# Altium footprint library Fuses.PcbLib: 1 footprints
Each footprint in its own frame and in the unit in brackets; x right, y up, seen from the top. Pads: shape width x height; smd on the part's side, far side on the other; paste and mask are expansions set on the pad; w line width, h text height; cw(c..) or ccw(c..) is an arc to the next point about the centre after c.
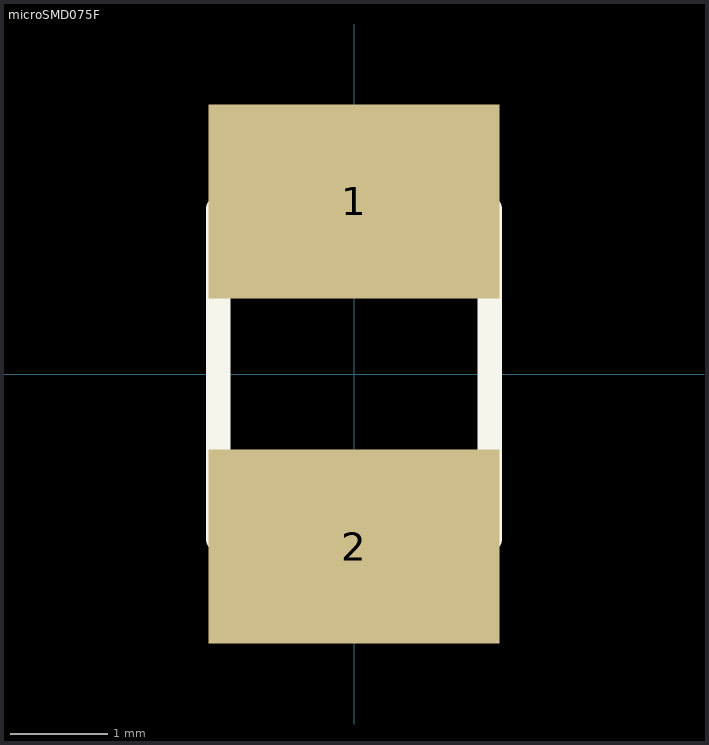
[diagram p0: the footprint, top view; thin cyan lines are the x and y axes]

## microSMD075F [mm] "Overcurrent Protection Device"
height 0.62
pads (2):
  rect 3x2 smd: 1(0,1.778) 2(0,-1.778)
Top Overlay:
  lines w0.254: -1.4,-1.7 -1.4,1.7 1.4,1.7 1.4,-1.7 -1.4,-1.7